# EAGLE library part 74LS30D (library EW_IC_74_Logic)
8 input NAND. Category: Gates Manufacturer: Generic
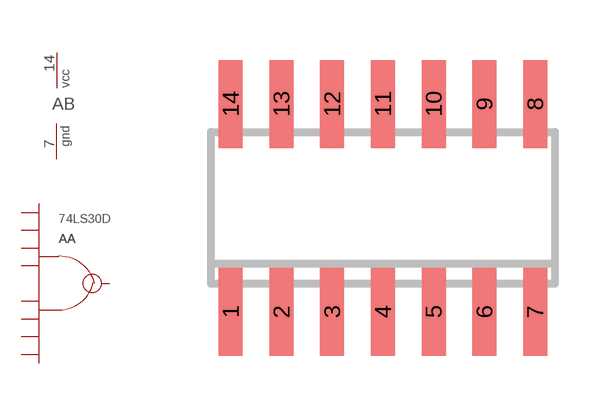
[diagram p226: symbol with the pads of SO14; footprint SO14]

Designator prefix A; gates A=NAND_8 B=PWRN

## 74LS30D  [SO14]
1  A:A  pwr
2  A:B  pwr
3  A:C  pwr
4  A:D  pwr
5  A:E  pwr
6  A:F  pwr
7  B:GND  pwr
8  A:Y  pwr
11  A:G  pwr
12  A:H  pwr
14  B:VCC  pwr

## Footprint SO14 (pad centres in mm)
SMALL OUTLINE INTEGRATED CIRCUIT body 3.9 mm/JEDEC MS-012AC
smd 0.6 x 2.2: 1 -3.81,-2.6; 2 -2.54,-2.6; 3 -1.27,-2.6; 4 0,-2.6; 5 1.27,-2.6; 6 2.54,-2.6; 7 3.81,-2.6; 8 3.81,2.6; 9 2.54,2.6; 10 1.27,2.6; 11 0,2.6; 12 -1.27,2.6; 13 -2.54,2.6; 14 -3.81,2.6